# EAGLE library part MMA8452QT (library untitled)
12-bit/8-bit Digital Accelerometer,QFN-16
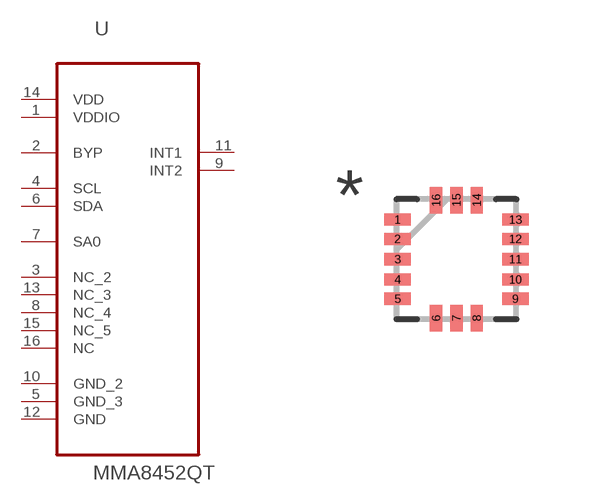
[diagram p0: symbol with the pads of QFN50P300X300X100-16N; footprint QFN50P300X300X100-16N]

Designator prefix U

## MMA8452QT (MPN: MMA8452QT; OC_FARNELL: 1842360; OC_NEWARK: 84R7353; PACKAGE: QFN-16; SUPPLIER: FREESCALE SEMICONDUCTOR)  [QFN50P300X300X100-16N]
1  VDDIO  pwr
2  BYP  in
3  NC_2  nc
4  SCL  pas
5  GND_3  pas
6  SDA  pas
7  SA0  in
8  NC_4  nc
9  INT2  out
10  GND_2  pas
11  INT1  out
12  GND  pas
13  NC_3  nc
14  VDD  pwr
15  NC_5  nc
16  NC  nc

## Footprint QFN50P300X300X100-16N (pad centres in mm)
smd 0.66 x 0.305: 1 -1.473,0.991; 2 -1.473,0.508; 3 -1.473,0; 4 -1.473,-0.508; 5 -1.473,-0.991; 9 1.473,-0.991; 10 1.473,-0.508; 11 1.473,0; 12 1.473,0.508; 13 1.473,0.991
smd 0.305 x 0.66: 6 -0.508,-1.473; 7 0,-1.473; 8 0.508,-1.473; 14 0.508,1.473; 15 0,1.473; 16 -0.508,1.473